# Altium footprint library CON FLE-106_2.PcbLib: 1 footprints
Each footprint in its own frame and in the unit in brackets; x right, y up, seen from the top. Pads: shape width x height; smd on the part's side, far side on the other; paste and mask are expansions set on the pad; w line width, h text height; cw(c..) or ccw(c..) is an arc to the next point about the centre after c.
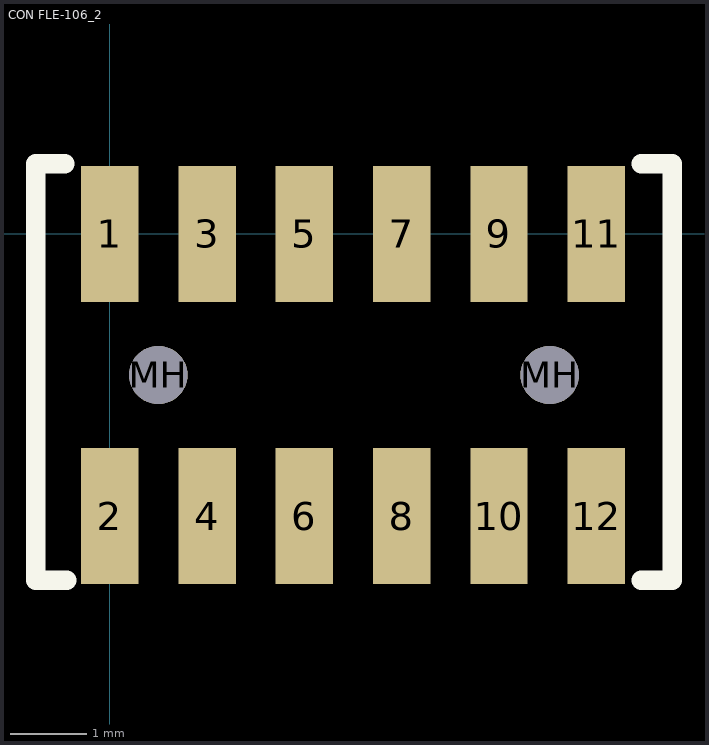
[diagram p0: the footprint, top view; thin cyan lines are the x and y axes]

## CON FLE-106_2 [mil] "Connector"
pads (14):
  rect 29.53x70 smd: 1(0,0) 2(0,-145) 3(50,0) 4(50,-145) 5(100,0) 6(100,-145) 7(150,0) 8(150,-145) 9(200,0) 10(200,-145) 11(250,0) 12(250,-145)
  round 30 hole 30 unplated: MH(25,-72.5) MH(226,-72.5)
Top Overlay:
  lines w10: -23,36 -38,36 -38,-178 -22,-178 ; 273,-178 289,-178 289,36 273,36